# EAGLE library part VOCORE2-SMD (library pager)
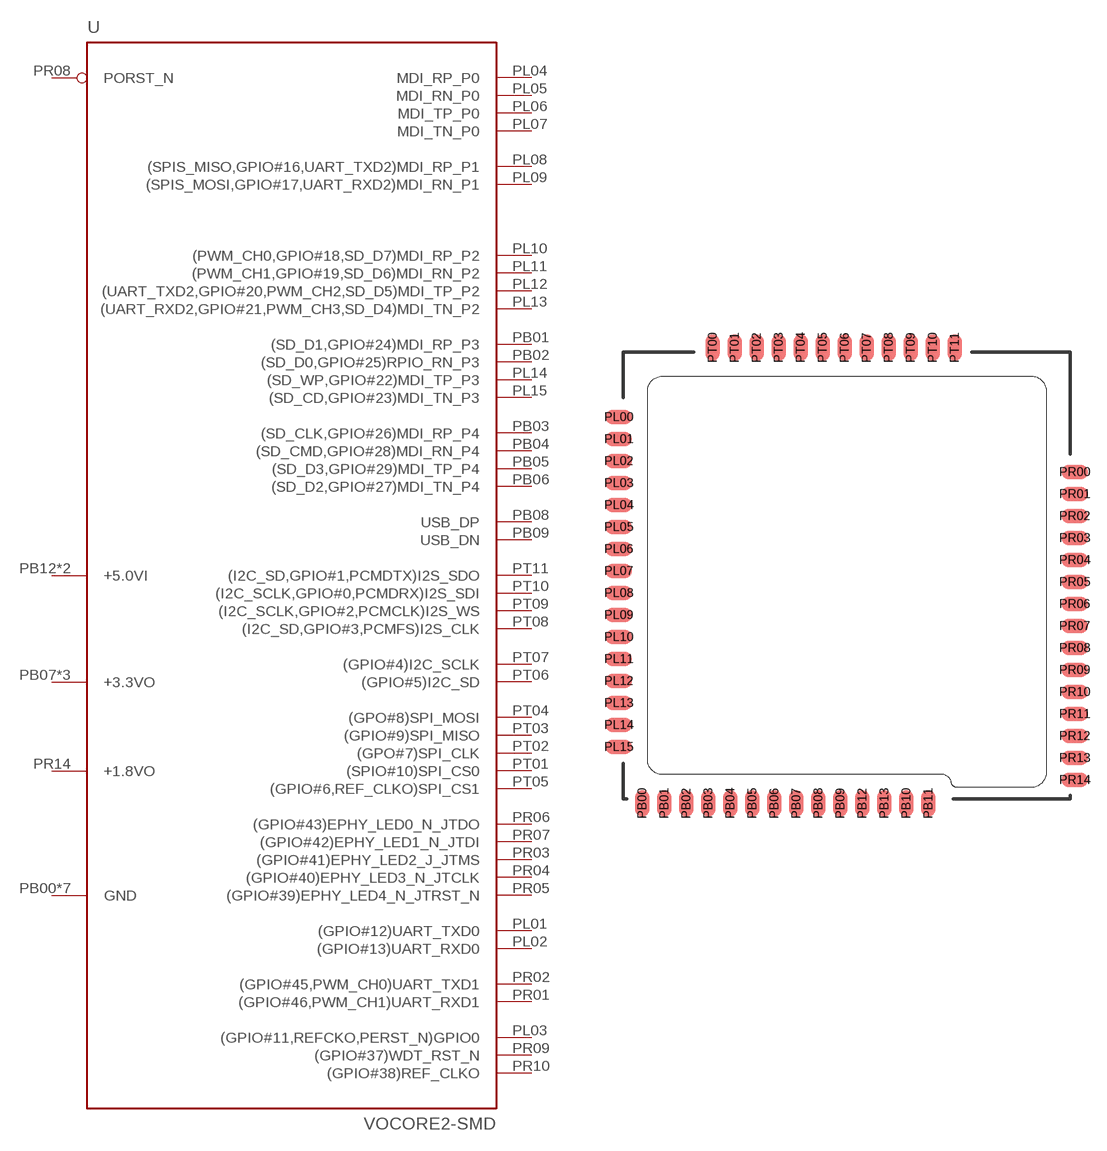
[diagram p4: symbol with the pads of VOCORE2-SMD; footprint VOCORE2-SMD]

Designator prefix -

## VOCORE2-SMD  [VOCORE2-SMD]
PB00  GND  pwr
PB01  (SD_D1,GPIO#24)MDI_RP_P3
PB02  (SD_D0,GPIO#25)RPIO_RN_P3
PB03  (SD_CLK,GPIO#26)MDI_RP_P4
PB04  (SD_CMD,GPIO#28)MDI_RN_P4
PB05  (SD_D3,GPIO#29)MDI_TP_P4
PB06  (SD_D2,GPIO#27)MDI_TN_P4
PB07  +3.3VO  pwr
PB08  USB_DP
PB09  USB_DN
PB10  GND  pwr
PB11  GND  pwr
PB12  +5.0VI  pwr
PB13  +5.0VI  pwr
PL00  +3.3VO  pwr
PL01  (GPIO#12)UART_TXD0
PL02  (GPIO#13)UART_RXD0
PL03  (GPIO#11,REFCKO,PERST_N)GPIO0
PL04  MDI_RP_P0  in
PL05  MDI_RN_P0  in
PL06  MDI_TP_P0  out
PL07  MDI_TN_P0  out
PL08  (SPIS_MISO,GPIO#16,UART_TXD2)MDI_RP_P1
PL09  (SPIS_MOSI,GPIO#17,UART_RXD2)MDI_RN_P1
PL10  (PWM_CH0,GPIO#18,SD_D7)MDI_RP_P2
PL11  (PWM_CH1,GPIO#19,SD_D6)MDI_RN_P2
PL12  (UART_TXD2,GPIO#20,PWM_CH2,SD_D5)MDI_TP_P2
PL13  (UART_RXD2,GPIO#21,PWM_CH3,SD_D4)MDI_TN_P2
PL14  (SD_WP,GPIO#22)MDI_TP_P3
PL15  (SD_CD,GPIO#23)MDI_TN_P3
PR00  GND  pwr
PR01  (GPIO#46,PWM_CH1)UART_RXD1
PR02  (GPIO#45,PWM_CH0)UART_TXD1
PR03  (GPIO#41)EPHY_LED2_J_JTMS
PR04  (GPIO#40)EPHY_LED3_N_JTCLK
PR05  (GPIO#39)EPHY_LED4_N_JTRST_N
PR06  (GPIO#43)EPHY_LED0_N_JTDO
PR07  (GPIO#42)EPHY_LED1_N_JTDI
PR08  PORST_N  in
PR09  (GPIO#37)WDT_RST_N
PR10  (GPIO#38)REF_CLKO
PR11  +3.3VO  pwr
PR12  GND  pwr
PR13  GND  pwr
PR14  +1.8VO  sup
PT00  GND  pwr
PT01  (SPIO#10)SPI_CS0
PT02  (GPO#7)SPI_CLK  out
PT03  (GPIO#9)SPI_MISO
PT04  (GPO#8)SPI_MOSI  out
PT05  (GPIO#6,REF_CLKO)SPI_CS1
PT06  (GPIO#5)I2C_SD
PT07  (GPIO#4)I2C_SCLK
PT08  (I2C_SD,GPIO#3,PCMFS)I2S_CLK
PT09  (I2C_SCLK,GPIO#2,PCMCLK)I2S_WS
PT10  (I2C_SCLK,GPIO#0,PCMDRX)I2S_SDI
PT11  (I2C_SD,GPIO#1,PCMDTX)I2S_SDO

## Footprint VOCORE2-SMD (pad centres in mm)
smd 0.838 x 1.524: PB00 -11.811,-13.157; PB01 -10.541,-13.157; PB02 -9.271,-13.157; PB03 -8.001,-13.157; PB04 -6.731,-13.157; PB05 -5.461,-13.157; PB06 -4.191,-13.157; PB07 -2.921,-13.157; PB08 -1.651,-13.157; PB09 -0.381,-13.157; PB10 3.429,-13.157; PB11 4.699,-13.157; PB12 0.889,-13.157; PB13 2.159,-13.157; PT01 -6.477,13.157; PT02 -5.207,13.157; PT03 -3.937,13.157; PT04 -2.667,13.157; PT05 -1.397,13.157; PT06 -0.127,13.157; PT07 1.143,13.157; PT08 2.413,13.157; PT09 3.683,13.157; PT10 4.953,13.157; PT11 6.223,13.157
smd 1.524 x 0.838: PL00 -13.157,9.144; PL01 -13.157,7.874; PL02 -13.157,6.604; PL03 -13.157,5.334; PL04 -13.157,4.064; PL05 -13.157,2.794; PL06 -13.157,1.524; PL07 -13.157,0.254; PL08 -13.157,-1.016; PL09 -13.157,-2.286; PL10 -13.157,-3.556; PL11 -13.157,-4.826; PL12 -13.157,-6.096; PL13 -13.157,-7.366; PL14 -13.157,-8.636; PL15 -13.157,-9.906; PR00 13.157,5.969; PR01 13.157,4.699; PR02 13.157,3.429; PR03 13.157,2.159; PR04 13.157,0.889; PR05 13.157,-0.381; PR06 13.157,-1.651; PR07 13.157,-2.921; PR08 13.157,-4.191; PR09 13.157,-5.461; PR10 13.157,-6.731; PR11 13.157,-8.001; PR12 13.157,-9.271; PR13 13.157,-10.541; PR14 13.157,-11.811
smd 0.813 x 1.524: PT00 -7.747,13.157